# Altium integrated library TI_Logic_Little_Logic.IntLib: 1164 symbols (part 29 of 35)
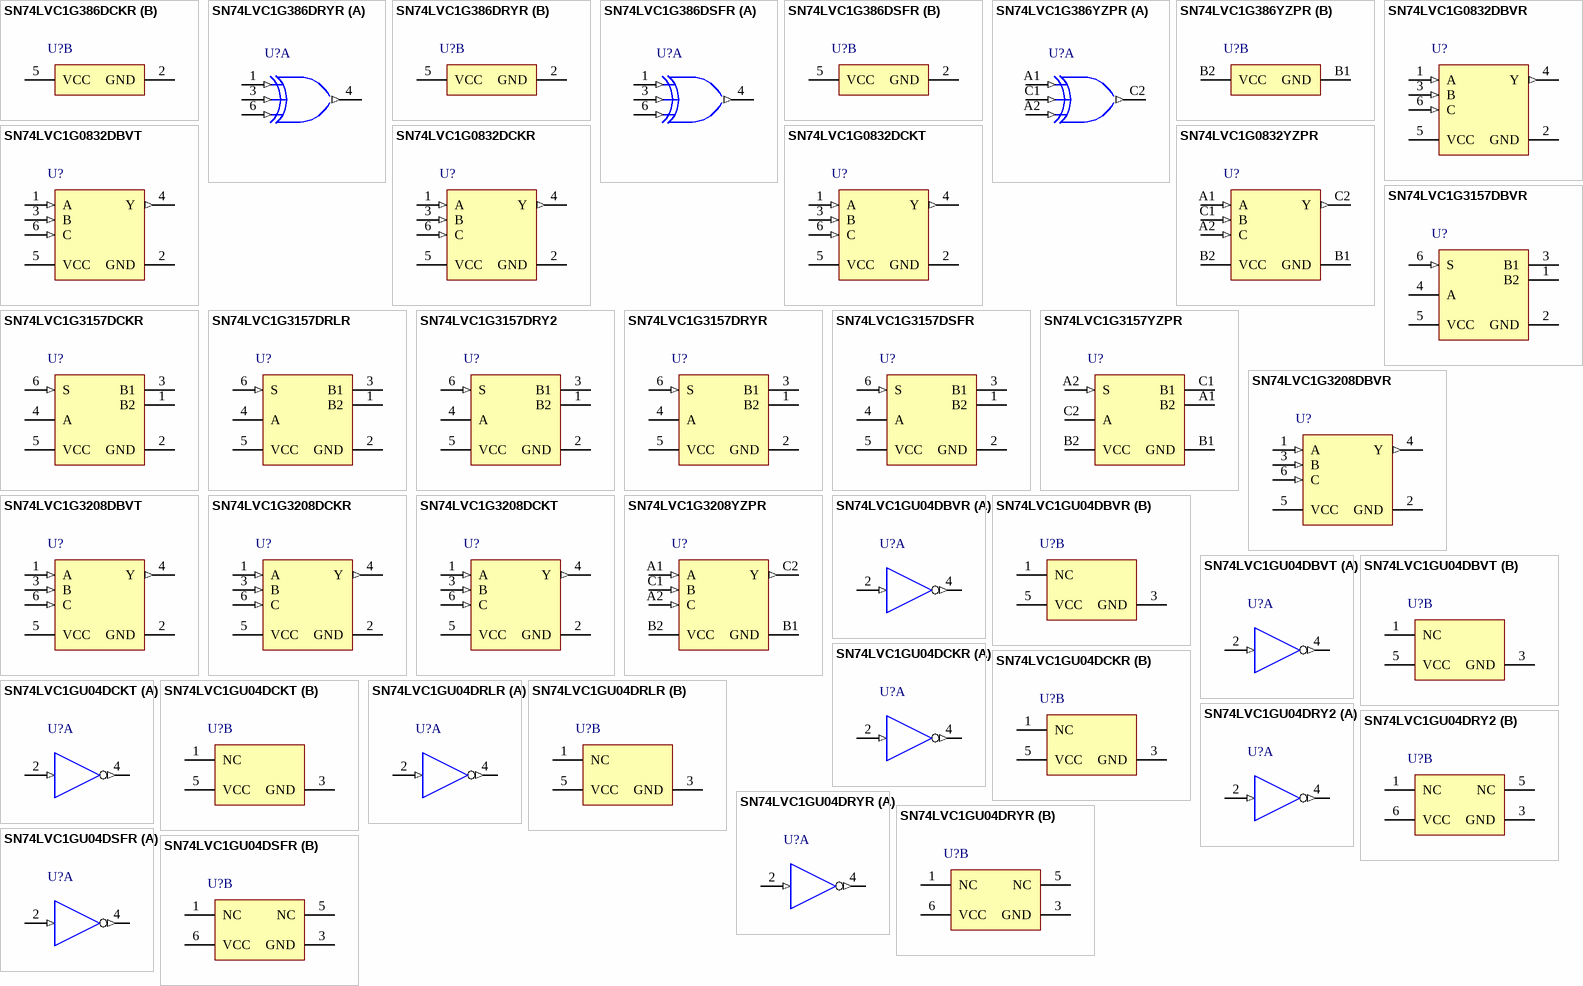
[diagram p88: symbols SN74LVC1G386DCKR to SN74LVC1GU04DSFR]

## SN74LVC1G386DSFR
designator U?
SINGLE 3-INPUT POSITIVE-XOR GATE, DSF0006A, LARGE T&R; Generic Part Number: SN74LVC1G386; Manufacturer: Texas Instruments; PartNumber: SN74LVC1G386DSFR; VCC(Min)(V): 1.65; VCC(Max)(V): 5.5; Output Type: CMOS; ICC @ Nom Voltage(Max)(mA): 0.01; Input Type: CMOS/TTL; Bits(#): 1; F @ Nom Voltage(Max)(Mhz): 150; Rating: Catalog; Technology Family: LVC; Voltage(Nom)(V): 1.8,2.5,3.3,5; Schmitt Trigger: No; Output Drive (IOL/IOH)(Max)(mA): 32/-32; tpd @ Nom Voltage(Max)(ns): 12,5.5,5,4; Logic: True; Gate Type: XOR; DatasheetVersion: SCES439E; PackageReference: DSF0006A; Supplier 1: Mouser; Supplier Part Number 1: 595-SN74LVC1G386DSFR; Supplier 2: Digi-Key; Supplier Part Number 2: 296-30127-2-ND; Supplier 3: Digi-Key; Supplier Part Number 3: 296-30127-1-ND; Supplier 4: Digi-Key; Supplier Part Number 4: 296-30127-6-ND; Operating Temperature Range(C): -40 to 125,-40 to 85; Sub-Family: XOR Gate; 3-State Output: No; ComponentLink1Description: Manufacturer URL; ComponentLink1URL: http://www.ti.com/; ComponentLink2Description: Datasheet; ComponentLink2URL: http://www.ti.com/lit/ds/symlink/sn74lvc1g386.pdf
footprint DSF0006A_V (SON, 6-Leads, Body 1x1mm, Pitch 0.35mm, TI Recommend)
part A pins: 1 A (in), 3 B (in), 4 Y (out), 6 C (in)
part B pins: 2 GND (power), 5 VCC (power)

## SN74LVC1G386YZPR
designator U?
SINGLE 3-INPUT POSITIVE-XOR GATE, YZP0006ADAD, LARGE T&R; Generic Part Number: SN74LVC1G386; Manufacturer: Texas Instruments; PartNumber: SN74LVC1G386YZPR; VCC(Min)(V): 1.65; VCC(Max)(V): 5.5; Output Type: CMOS; ICC @ Nom Voltage(Max)(mA): 0.01; Input Type: CMOS/TTL; Bits(#): 1; F @ Nom Voltage(Max)(Mhz): 150; Rating: Catalog; Technology Family: LVC; Voltage(Nom)(V): 1.8,2.5,3.3,5; Schmitt Trigger: No; Output Drive (IOL/IOH)(Max)(mA): 32/-32; tpd @ Nom Voltage(Max)(ns): 12,5.5,5,4; Logic: True; Gate Type: XOR; DatasheetVersion: SCES439E; PackageReference: YZP0006ADAD; Supplier 1: Mouser; Supplier Part Number 1: 595-SN74LVC1G386YZPR; Supplier 2: Digi-Key; Supplier Part Number 2: 296-18782-2-ND; Supplier 3: Digi-Key; Supplier Part Number 3: 296-18782-1-ND; Operating Temperature Range(C): -40 to 125,-40 to 85; Sub-Family: XOR Gate; 3-State Output: No; ComponentLink1Description: Manufacturer URL; ComponentLink1URL: http://www.ti.com/; ComponentLink2Description: Datasheet; ComponentLink2URL: http://www.ti.com/lit/ds/symlink/sn74lvc1g386.pdf
footprint YZP0006ADAD (BGA, 6-Balls, Body 1.39x0.89mm, Pitch 0.5mm)
part A pins: A1 A (in), A2 C (in), C1 B (in), C2 Y (out)
part B pins: B1 GND (power), B2 VCC (power)

## SN74LVC1G0832DBVR
designator U?
Single 3-Input Positive AND-OR Gate, DBV0006A, LARGE T&R; Generic Part Number: SN74LVC1G0832; Manufacturer: Texas Instruments; PartNumber: SN74LVC1G0832DBVR; VCC(Min)(V): 1.65; VCC(Max)(V): 5.5; Output Type: CMOS; ICC @ Nom Voltage(Max)(mA): 0.01; Input Type: CMOS/TTL; Bits(#): 1; F @ Nom Voltage(Max)(Mhz): 150; Rating: Catalog; Technology Family: LVC; Voltage(Nom)(V): 1.8,2.5,3.3,5; Schmitt Trigger: No; Output Drive (IOL/IOH)(Max)(mA): 32/-32; tpd @ Nom Voltage(Max)(ns): 17.5,7.6,5.9,4.5; Logic: True; Gate Type: Configurable; Sub-Family: Configurable Logic; DatasheetVersion: SCES606D; PackageReference: DBV0006A; Supplier 1: Mouser; Supplier Part Number 1: 595-SN74LC1G0832DBVR; Supplier 2: Digi-Key; Supplier Part Number 2: 296-18753-2-ND; Supplier 3: Digi-Key; Supplier Part Number 3: 296-18753-1-ND; Supplier 4: Digi-Key; Supplier Part Number 4: 296-18753-6-ND; Operating Temperature Range(C): -40 to 125,-40 to 85; 3-State Output: No; ComponentLink1Description: Manufacturer URL; ComponentLink1URL: http://www.ti.com/; ComponentLink2Description: Datasheet; ComponentLink2URL: http://www.ti.com/lit/ds/symlink/sn74lvc1g0832.pdf
footprint DBV0006A_N (SOT23, 6-Leads, Body 3.05x1.75mm, Pitch 0.95mm, IPC Medium Density)
footprint DBV0006A_M (SOT23, 6-Leads, Body 3.05x1.75mm, Pitch 0.95mm, IPC Low Density)
footprint DBV0006A_L (SOT23, 6-Leads, Body 3.05x1.75mm, Pitch 0.95mm, IPC High Density)
pins: 1 A (in), 2 GND (power), 3 B (in), 4 Y (out), 5 VCC (power), 6 C (in)

## SN74LVC1G0832DBVT
designator U?
Single 3-Input Positive AND-OR Gate, DBV0006A, SMALL T&R; Generic Part Number: SN74LVC1G0832; Manufacturer: Texas Instruments; PartNumber: SN74LVC1G0832DBVT; VCC(Min)(V): 1.65; VCC(Max)(V): 5.5; Output Type: CMOS; ICC @ Nom Voltage(Max)(mA): 0.01; Input Type: CMOS/TTL; Bits(#): 1; F @ Nom Voltage(Max)(Mhz): 150; Rating: Catalog; Technology Family: LVC; Voltage(Nom)(V): 1.8,2.5,3.3,5; Schmitt Trigger: No; Output Drive (IOL/IOH)(Max)(mA): 32/-32; tpd @ Nom Voltage(Max)(ns): 17.5,7.6,5.9,4.5; Logic: True; Gate Type: Configurable; Sub-Family: Configurable Logic; DatasheetVersion: SCES606D; PackageReference: DBV0006A; Supplier 1: Mouser; Supplier Part Number 1: 595-74LVC1G0832DBVT; Supplier 2: Digi-Key; Supplier Part Number 2: SN74LVC1G0832DBVT-ND; Operating Temperature Range(C): -40 to 125,-40 to 85; 3-State Output: No; ComponentLink1Description: Manufacturer URL; ComponentLink1URL: http://www.ti.com/; ComponentLink2Description: Datasheet; ComponentLink2URL: http://www.ti.com/lit/ds/symlink/sn74lvc1g0832.pdf
footprint DBV0006A_N (SOT23, 6-Leads, Body 3.05x1.75mm, Pitch 0.95mm, IPC Medium Density)
footprint DBV0006A_M (SOT23, 6-Leads, Body 3.05x1.75mm, Pitch 0.95mm, IPC Low Density)
footprint DBV0006A_L (SOT23, 6-Leads, Body 3.05x1.75mm, Pitch 0.95mm, IPC High Density)
pins: 1 A (in), 2 GND (power), 3 B (in), 4 Y (out), 5 VCC (power), 6 C (in)

## SN74LVC1G0832DCKR
designator U?
Single 3-Input Positive AND-OR Gate, DCK0006A, LARGE T&R; Generic Part Number: SN74LVC1G0832; Manufacturer: Texas Instruments; PartNumber: SN74LVC1G0832DCKR; VCC(Min)(V): 1.65; VCC(Max)(V): 5.5; Output Type: CMOS; ICC @ Nom Voltage(Max)(mA): 0.01; Input Type: CMOS/TTL; Bits(#): 1; F @ Nom Voltage(Max)(Mhz): 150; Rating: Catalog; Technology Family: LVC; Voltage(Nom)(V): 1.8,2.5,3.3,5; Schmitt Trigger: No; Output Drive (IOL/IOH)(Max)(mA): 32/-32; tpd @ Nom Voltage(Max)(ns): 17.5,7.6,5.9,4.5; Logic: True; Gate Type: Configurable; Sub-Family: Configurable Logic; DatasheetVersion: SCES606D; PackageReference: DCK0006A; Supplier 1: Mouser; Supplier Part Number 1: 595-SN74LVC1G832DCKR; Supplier 2: Digi-Key; Supplier Part Number 2: 296-18754-2-ND; Supplier 3: Digi-Key; Supplier Part Number 3: 296-18754-1-ND; Supplier 4: Digi-Key; Supplier Part Number 4: 296-18754-6-ND; Operating Temperature Range(C): -40 to 125,-40 to 85; 3-State Output: No; ComponentLink1Description: Manufacturer URL; ComponentLink1URL: http://www.ti.com/; ComponentLink2Description: Datasheet; ComponentLink2URL: http://www.ti.com/lit/ds/symlink/sn74lvc1g0832.pdf
footprint DCK0006A_N (SOT23, 6-Leads, Body 2.15x1.4mm, Pitch 0.65mm, IPC Medium Density)
footprint DCK0006A_M (SOT23, 6-Leads, Body 2.15x1.4mm, Pitch 0.65mm, IPC Low Density)
footprint DCK0006A_L (SOT23, 6-Leads, Body 2.15x1.4mm, Pitch 0.65mm, IPC High Density)
pins: 1 A (in), 2 GND (power), 3 B (in), 4 Y (out), 5 VCC (power), 6 C (in)

## SN74LVC1G0832DCKT
designator U?
Single 3-Input Positive AND-OR Gate, DCK0006A, SMALL T&R; Generic Part Number: SN74LVC1G0832; Manufacturer: Texas Instruments; PartNumber: SN74LVC1G0832DCKT; VCC(Min)(V): 1.65; VCC(Max)(V): 5.5; Output Type: CMOS; ICC @ Nom Voltage(Max)(mA): 0.01; Input Type: CMOS/TTL; Bits(#): 1; F @ Nom Voltage(Max)(Mhz): 150; Rating: Catalog; Technology Family: LVC; Voltage(Nom)(V): 1.8,2.5,3.3,5; Schmitt Trigger: No; Output Drive (IOL/IOH)(Max)(mA): 32/-32; tpd @ Nom Voltage(Max)(ns): 17.5,7.6,5.9,4.5; Logic: True; Gate Type: Configurable; Sub-Family: Configurable Logic; DatasheetVersion: SCES606D; PackageReference: DCK0006A; Supplier 1: Mouser; Supplier Part Number 1: 595-74LVC1G0832DCKT; Supplier 2: Digi-Key; Supplier Part Number 2: 296-32291-2-ND; Supplier 3: Digi-Key; Supplier Part Number 3: 296-32291-1-ND; Supplier 4: Digi-Key; Supplier Part Number 4: 296-32291-6-ND; Operating Temperature Range(C): -40 to 125,-40 to 85; 3-State Output: No; ComponentLink1Description: Manufacturer URL; ComponentLink1URL: http://www.ti.com/; ComponentLink2Description: Datasheet; ComponentLink2URL: http://www.ti.com/lit/ds/symlink/sn74lvc1g0832.pdf
footprint DCK0006A_N (SOT23, 6-Leads, Body 2.15x1.4mm, Pitch 0.65mm, IPC Medium Density)
footprint DCK0006A_M (SOT23, 6-Leads, Body 2.15x1.4mm, Pitch 0.65mm, IPC Low Density)
footprint DCK0006A_L (SOT23, 6-Leads, Body 2.15x1.4mm, Pitch 0.65mm, IPC High Density)
pins: 1 A (in), 2 GND (power), 3 B (in), 4 Y (out), 5 VCC (power), 6 C (in)

## SN74LVC1G0832YZPR
designator U?
Single 3-Input Positive AND-OR Gate, YZP0006ADAD, LARGE T&R; Generic Part Number: SN74LVC1G0832; Manufacturer: Texas Instruments; PartNumber: SN74LVC1G0832YZPR; VCC(Min)(V): 1.65; VCC(Max)(V): 5.5; Output Type: CMOS; ICC @ Nom Voltage(Max)(mA): 0.01; Input Type: CMOS/TTL; Bits(#): 1; F @ Nom Voltage(Max)(Mhz): 150; Rating: Catalog; Technology Family: LVC; Voltage(Nom)(V): 1.8,2.5,3.3,5; Schmitt Trigger: No; Output Drive (IOL/IOH)(Max)(mA): 32/-32; tpd @ Nom Voltage(Max)(ns): 17.5,7.6,5.9,4.5; Logic: True; Gate Type: Configurable; Sub-Family: Configurable Logic; DatasheetVersion: SCES606D; PackageReference: YZP0006ADAD; Supplier 1: Mouser; Supplier Part Number 1: 595-SN74LC1G0832YZPR; Supplier 2: Digi-Key; Supplier Part Number 2: 296-18199-2-ND; Supplier 3: Digi-Key; Supplier Part Number 3: 296-18199-1-ND; Operating Temperature Range(C): -40 to 125,-40 to 85; 3-State Output: No; ComponentLink1Description: Manufacturer URL; ComponentLink1URL: http://www.ti.com/; ComponentLink2Description: Datasheet; ComponentLink2URL: http://www.ti.com/lit/ds/symlink/sn74lvc1g0832.pdf
footprint YZP0006ADAD (BGA, 6-Balls, Body 1.39x0.89mm, Pitch 0.5mm)
pins: A1 A (in), A2 C (in), B1 GND (power), B2 VCC (power), C1 B (in), C2 Y (out)

## SN74LVC1G3157DBVR
designator U?
Single-Pole, Double-Throw Analog Switch, DBV0006A, LARGE T&R; Generic Part Number: SN74LVC1G3157; Manufacturer: Texas Instruments; PartNumber: SN74LVC1G3157DBVR; VCC(Min)(V): 1.65; VCC(Max)(V): 5.5; Output Type: CMOS; Logic: True; ICC @ Nom Voltage(Max)(mA): 0.01; Input Type: CMOS/TTL; Bits(#): 1; F @ Nom Voltage(Max)(Mhz): 150; Rating: Catalog; Technology Family: LVC; Voltage(Nom)(V): 1.8,2.5,3.3,5; Schmitt Trigger: No; Output Drive (IOL/IOH)(Max)(mA): 32/-32; Mux Configuration: 1：2; Switch Configuration: SPDT; tpd @ Nom Voltage(Max)(ns): 2,1.2,0.8,0.3; DatasheetVersion: SCES424H; PackageReference: DBV0006A; Supplier 1: Mouser; Supplier Part Number 1: 595-SN74LVC1G3157DBV; Supplier 2: Digi-Key; Supplier Part Number 2: 296-14908-2-ND; Supplier 3: Digi-Key; Supplier Part Number 3: 296-14908-1-ND; Supplier 4: Digi-Key; Supplier Part Number 4: 296-14908-6-ND; Operating Temperature Range(C): -40 to 85; Channels(#): 1; Sub-Family: Analog Switch; 3-State Output: No; ComponentLink1Description: Manufacturer URL; ComponentLink1URL: http://www.ti.com/; ComponentLink2Description: Datasheet; ComponentLink2URL: http://www.ti.com/lit/ds/symlink/sn74lvc1g3157.pdf
footprint DBV0006A_N (SOT23, 6-Leads, Body 3.05x1.75mm, Pitch 0.95mm, IPC Medium Density)
footprint DBV0006A_M (SOT23, 6-Leads, Body 3.05x1.75mm, Pitch 0.95mm, IPC Low Density)
footprint DBV0006A_L (SOT23, 6-Leads, Body 3.05x1.75mm, Pitch 0.95mm, IPC High Density)
pins: 1 B2, 2 GND (power), 3 B1, 4 A, 5 VCC (power), 6 S (in)

## SN74LVC1G3157DCKR
designator U?
Single-Pole, Double-Throw Analog Switch, DCK0006A, LARGE T&R; Generic Part Number: SN74LVC1G3157; Manufacturer: Texas Instruments; PartNumber: SN74LVC1G3157DCKR; VCC(Min)(V): 1.65; VCC(Max)(V): 5.5; Output Type: CMOS; Logic: True; ICC @ Nom Voltage(Max)(mA): 0.01; Input Type: CMOS/TTL; Bits(#): 1; F @ Nom Voltage(Max)(Mhz): 150; Rating: Catalog; Technology Family: LVC; Voltage(Nom)(V): 1.8,2.5,3.3,5; Schmitt Trigger: No; Output Drive (IOL/IOH)(Max)(mA): 32/-32; Mux Configuration: 1：2; Switch Configuration: SPDT; tpd @ Nom Voltage(Max)(ns): 2,1.2,0.8,0.3; DatasheetVersion: SCES424H; PackageReference: DCK0006A; Supplier 1: Mouser; Supplier Part Number 1: 595-SN74LVC1G3157DCK; Supplier 2: Digi-Key; Supplier Part Number 2: 296-14909-2-ND; Supplier 3: Digi-Key; Supplier Part Number 3: 296-14909-1-ND; Supplier 4: Digi-Key; Supplier Part Number 4: 296-14909-6-ND; Operating Temperature Range(C): -40 to 85; Channels(#): 1; Sub-Family: Analog Switch; 3-State Output: No; ComponentLink1Description: Manufacturer URL; ComponentLink1URL: http://www.ti.com/; ComponentLink2Description: Datasheet; ComponentLink2URL: http://www.ti.com/lit/ds/symlink/sn74lvc1g3157.pdf
footprint DCK0006A_N (SOT23, 6-Leads, Body 2.15x1.4mm, Pitch 0.65mm, IPC Medium Density)
footprint DCK0006A_M (SOT23, 6-Leads, Body 2.15x1.4mm, Pitch 0.65mm, IPC Low Density)
footprint DCK0006A_L (SOT23, 6-Leads, Body 2.15x1.4mm, Pitch 0.65mm, IPC High Density)
pins: 1 B2, 2 GND (power), 3 B1, 4 A, 5 VCC (power), 6 S (in)

## SN74LVC1G3157DRLR
designator U?
Single-Pole, Double-Throw Analog Switch, DRL0006A, LARGE T&R; Generic Part Number: SN74LVC1G3157; Manufacturer: Texas Instruments; PartNumber: SN74LVC1G3157DRLR; VCC(Min)(V): 1.65; VCC(Max)(V): 5.5; Output Type: CMOS; Logic: True; ICC @ Nom Voltage(Max)(mA): 0.01; Input Type: CMOS/TTL; Bits(#): 1; F @ Nom Voltage(Max)(Mhz): 150; Rating: Catalog; Technology Family: LVC; Voltage(Nom)(V): 1.8,2.5,3.3,5; Schmitt Trigger: No; Output Drive (IOL/IOH)(Max)(mA): 32/-32; Mux Configuration: 1：2; Switch Configuration: SPDT; tpd @ Nom Voltage(Max)(ns): 2,1.2,0.8,0.3; DatasheetVersion: SCES424H; PackageReference: DRL0006A; Supplier 1: Mouser; Supplier Part Number 1: 595-SN74LVC1G3157DRL; Supplier 2: Digi-Key; Supplier Part Number 2: 296-18015-2-ND; Supplier 3: Digi-Key; Supplier Part Number 3: 296-18015-1-ND; Supplier 4: Digi-Key; Supplier Part Number 4: 296-18015-6-ND; Operating Temperature Range(C): -40 to 85; Channels(#): 1; Sub-Family: Analog Switch; 3-State Output: No; ComponentLink1Description: Manufacturer URL; ComponentLink1URL: http://www.ti.com/; ComponentLink2Description: Datasheet; ComponentLink2URL: http://www.ti.com/lit/ds/symlink/sn74lvc1g3157.pdf
footprint DRL0006A_N (SOT23, 6-Leads, Body 1.7x1.3mm, Pitch 0.5mm, IPC Medium Density)
footprint DRL0006A_M (SOT23, 6-Leads, Body 1.7x1.3mm, Pitch 0.5mm, IPC Low Density)
footprint DRL0006A_L (SOT23, 6-Leads, Body 1.7x1.3mm, Pitch 0.5mm, IPC High Density)
pins: 1 B2, 2 GND (power), 3 B1, 4 A, 5 VCC (power), 6 S (in)

## SN74LVC1G3157DRY2
designator U?
Single-Pole, Double-Throw Analog Switch, DRY0006A, LARGE T&R; Generic Part Number: SN74LVC1G3157; Manufacturer: Texas Instruments; PartNumber: SN74LVC1G3157DRY2; VCC(Min)(V): 1.65; VCC(Max)(V): 5.5; Output Type: CMOS; Logic: True; ICC @ Nom Voltage(Max)(mA): 0.01; Input Type: CMOS/TTL; Bits(#): 1; F @ Nom Voltage(Max)(Mhz): 150; Rating: Catalog; Technology Family: LVC; Voltage(Nom)(V): 1.8,2.5,3.3,5; Schmitt Trigger: No; Output Drive (IOL/IOH)(Max)(mA): 32/-32; Mux Configuration: 1：2; Switch Configuration: SPDT; tpd @ Nom Voltage(Max)(ns): 2,1.2,0.8,0.3; DatasheetVersion: SCES424H; PackageReference: DRY0006A; Supplier 1: Mouser; Supplier Part Number 1: 595-N74LVC1G3157DRY2; Supplier 2: Digi-Key; Supplier Part Number 2: 296-40551-2-ND; Supplier 3: Digi-Key; Supplier Part Number 3: 296-40551-1-ND; Supplier 4: Digi-Key; Supplier Part Number 4: 296-40551-6-ND; Operating Temperature Range(C): -40 to 85; Channels(#): 1; Sub-Family: Analog Switch; 3-State Output: No; ComponentLink1Description: Manufacturer URL; ComponentLink1URL: http://www.ti.com/; ComponentLink2Description: Datasheet; ComponentLink2URL: http://www.ti.com/lit/ds/symlink/sn74lvc1g3157.pdf
footprint DRY0006A_V (SON, 6-Leads, Body 1.45x1mm, Pitch 0.5mm)
pins: 1 B2, 2 GND (power), 3 B1, 4 A, 5 VCC (power), 6 S (in)

## SN74LVC1G3157DRYR
designator U?
Single-Pole, Double-Throw Analog Switch, DRY0006A, LARGE T&R; Generic Part Number: SN74LVC1G3157; Manufacturer: Texas Instruments; PartNumber: SN74LVC1G3157DRYR; VCC(Min)(V): 1.65; VCC(Max)(V): 5.5; Output Type: CMOS; Logic: True; ICC @ Nom Voltage(Max)(mA): 0.01; Input Type: CMOS/TTL; Bits(#): 1; F @ Nom Voltage(Max)(Mhz): 150; Rating: Catalog; Technology Family: LVC; Voltage(Nom)(V): 1.8,2.5,3.3,5; Schmitt Trigger: No; Output Drive (IOL/IOH)(Max)(mA): 32/-32; Mux Configuration: 1：2; Switch Configuration: SPDT; tpd @ Nom Voltage(Max)(ns): 2,1.2,0.8,0.3; DatasheetVersion: SCES424H; PackageReference: DRY0006A; Supplier 1: Mouser; Supplier Part Number 1: 595-74LVC1G3157DRYR; Supplier 2: Digi-Key; Supplier Part Number 2: 296-21548-2-ND; Supplier 3: Digi-Key; Supplier Part Number 3: 296-21548-1-ND; Supplier 4: Digi-Key; Supplier Part Number 4: 296-21548-6-ND; Operating Temperature Range(C): -40 to 85; Channels(#): 1; Sub-Family: Analog Switch; 3-State Output: No; ComponentLink1Description: Manufacturer URL; ComponentLink1URL: http://www.ti.com/; ComponentLink2Description: Datasheet; ComponentLink2URL: http://www.ti.com/lit/ds/symlink/sn74lvc1g3157.pdf
footprint DRY0006A_V (SON, 6-Leads, Body 1.45x1mm, Pitch 0.5mm)
pins: 1 B2, 2 GND (power), 3 B1, 4 A, 5 VCC (power), 6 S (in)

## SN74LVC1G3157DSFR
designator U?
Single-Pole, Double-Throw Analog Switch, DSF0006A, LARGE T&R; Generic Part Number: SN74LVC1G3157; Manufacturer: Texas Instruments; PartNumber: SN74LVC1G3157DSFR; VCC(Min)(V): 1.65; VCC(Max)(V): 5.5; Output Type: CMOS; Logic: True; ICC @ Nom Voltage(Max)(mA): 0.01; Input Type: CMOS/TTL; Bits(#): 1; F @ Nom Voltage(Max)(Mhz): 150; Rating: Catalog; Technology Family: LVC; Voltage(Nom)(V): 1.8,2.5,3.3,5; Schmitt Trigger: No; Output Drive (IOL/IOH)(Max)(mA): 32/-32; Mux Configuration: 1：2; Switch Configuration: SPDT; tpd @ Nom Voltage(Max)(ns): 2,1.2,0.8,0.3; DatasheetVersion: SCES424H; PackageReference: DSF0006A; Supplier 1: Mouser; Supplier Part Number 1: 595-N74LVC1G3157DSFR; Supplier 2: Digi-Key; Supplier Part Number 2: 296-29652-2-ND; Supplier 3: Digi-Key; Supplier Part Number 3: 296-29652-1-ND; Supplier 4: Digi-Key; Supplier Part Number 4: 296-29652-6-ND; Operating Temperature Range(C): -40 to 85; Channels(#): 1; Sub-Family: Analog Switch; 3-State Output: No; ComponentLink1Description: Manufacturer URL; ComponentLink1URL: http://www.ti.com/; ComponentLink2Description: Datasheet; ComponentLink2URL: http://www.ti.com/lit/ds/symlink/sn74lvc1g3157.pdf
footprint DSF0006A_V (SON, 6-Leads, Body 1x1mm, Pitch 0.35mm, TI Recommend)
pins: 1 B2, 2 GND (power), 3 B1, 4 A, 5 VCC (power), 6 S (in)

## SN74LVC1G3157YZPR
designator U?
Single-Pole, Double-Throw Analog Switch, YZP0006ADAD, LARGE T&R; Generic Part Number: SN74LVC1G3157; Manufacturer: Texas Instruments; PartNumber: SN74LVC1G3157YZPR; VCC(Min)(V): 1.65; VCC(Max)(V): 5.5; Output Type: CMOS; Logic: True; ICC @ Nom Voltage(Max)(mA): 0.01; Input Type: CMOS/TTL; Bits(#): 1; F @ Nom Voltage(Max)(Mhz): 150; Rating: Catalog; Technology Family: LVC; Voltage(Nom)(V): 1.8,2.5,3.3,5; Schmitt Trigger: No; Output Drive (IOL/IOH)(Max)(mA): 32/-32; Mux Configuration: 1：2; Switch Configuration: SPDT; tpd @ Nom Voltage(Max)(ns): 2,1.2,0.8,0.3; DatasheetVersion: SCES424H; PackageReference: YZP0006ADAD; Supplier 1: Mouser; Supplier Part Number 1: 595-SN74LVC1G3157YZP; Supplier 2: Digi-Key; Supplier Part Number 2: 296-18770-2-ND; Supplier 3: Digi-Key; Supplier Part Number 3: 296-18770-1-ND; Supplier 4: Digi-Key; Supplier Part Number 4: 296-18770-6-ND; Operating Temperature Range(C): -40 to 85; Channels(#): 1; Sub-Family: Analog Switch; 3-State Output: No; ComponentLink1Description: Manufacturer URL; ComponentLink1URL: http://www.ti.com/; ComponentLink2Description: Datasheet; ComponentLink2URL: http://www.ti.com/lit/ds/symlink/sn74lvc1g3157.pdf
footprint YZP0006ADAD (BGA, 6-Balls, Body 1.39x0.89mm, Pitch 0.5mm)
pins: A1 B2, A2 S (in), B1 GND (power), B2 VCC (power), C1 B1, C2 A

## SN74LVC1G3208DBVR
designator U?
Single 3-Input Positive OR-AND Gate, DBV0006A, LARGE T&R; Generic Part Number: SN74LVC1G3208; Manufacturer: Texas Instruments; PartNumber: SN74LVC1G3208DBVR; VCC(Min)(V): 1.65; VCC(Max)(V): 5.5; Output Type: CMOS; ICC @ Nom Voltage(Max)(mA): 0.01; Input Type: CMOS/TTL; Bits(#): 1; F @ Nom Voltage(Max)(Mhz): 150; Rating: Catalog; Technology Family: LVC; Voltage(Nom)(V): 1.8,2.5,3.3,5; Schmitt Trigger: No; Output Drive (IOL/IOH)(Max)(mA): 32/-32; tpd @ Nom Voltage(Max)(ns): 17.5,7.5,5.9,4.5; Logic: True; Gate Type: Configurable; Sub-Family: Configurable Logic; DatasheetVersion: SCES605B; PackageReference: DBV0006A; Supplier 1: Mouser; Supplier Part Number 1: 595-SN74LC1G3208DBVR; Supplier 2: Digi-Key; Supplier Part Number 2: 296-18771-2-ND; Supplier 3: Digi-Key; Supplier Part Number 3: 296-18771-1-ND; Supplier 4: Digi-Key; Supplier Part Number 4: 296-18771-6-ND; Operating Temperature Range(C): -40 to 125,-40 to 85; 3-State Output: No; ComponentLink1Description: Manufacturer URL; ComponentLink1URL: http://www.ti.com/; ComponentLink2Description: Datasheet; ComponentLink2URL: http://www.ti.com/lit/ds/symlink/sn74lvc1g3208.pdf
footprint DBV0006A_N (SOT23, 6-Leads, Body 3.05x1.75mm, Pitch 0.95mm, IPC Medium Density)
footprint DBV0006A_M (SOT23, 6-Leads, Body 3.05x1.75mm, Pitch 0.95mm, IPC Low Density)
footprint DBV0006A_L (SOT23, 6-Leads, Body 3.05x1.75mm, Pitch 0.95mm, IPC High Density)
pins: 1 A (in), 2 GND (power), 3 B (in), 4 Y (out), 5 VCC (power), 6 C (in)

## SN74LVC1G3208DBVT
designator U?
Single 3-Input Positive OR-AND Gate, DBV0006A, SMALL T&R; Generic Part Number: SN74LVC1G3208; Manufacturer: Texas Instruments; PartNumber: SN74LVC1G3208DBVT; VCC(Min)(V): 1.65; VCC(Max)(V): 5.5; Output Type: CMOS; ICC @ Nom Voltage(Max)(mA): 0.01; Input Type: CMOS/TTL; Bits(#): 1; F @ Nom Voltage(Max)(Mhz): 150; Rating: Catalog; Technology Family: LVC; Voltage(Nom)(V): 1.8,2.5,3.3,5; Schmitt Trigger: No; Output Drive (IOL/IOH)(Max)(mA): 32/-32; tpd @ Nom Voltage(Max)(ns): 17.5,7.5,5.9,4.5; Logic: True; Gate Type: Configurable; Sub-Family: Configurable Logic; DatasheetVersion: SCES605B; PackageReference: DBV0006A; Supplier 1: Mouser; Supplier Part Number 1: 595-74LVC1G3208DBVT; Supplier 2: Digi-Key; Supplier Part Number 2: SN74LVC1G3208DBVT-ND; Operating Temperature Range(C): -40 to 125,-40 to 85; 3-State Output: No; ComponentLink1Description: Manufacturer URL; ComponentLink1URL: http://www.ti.com/; ComponentLink2Description: Datasheet; ComponentLink2URL: http://www.ti.com/lit/ds/symlink/sn74lvc1g3208.pdf
footprint DBV0006A_N (SOT23, 6-Leads, Body 3.05x1.75mm, Pitch 0.95mm, IPC Medium Density)
footprint DBV0006A_M (SOT23, 6-Leads, Body 3.05x1.75mm, Pitch 0.95mm, IPC Low Density)
footprint DBV0006A_L (SOT23, 6-Leads, Body 3.05x1.75mm, Pitch 0.95mm, IPC High Density)
pins: 1 A (in), 2 GND (power), 3 B (in), 4 Y (out), 5 VCC (power), 6 C (in)

## SN74LVC1G3208DCKR
designator U?
Single 3-Input Positive OR-AND Gate, DCK0006A, LARGE T&R; Generic Part Number: SN74LVC1G3208; Manufacturer: Texas Instruments; PartNumber: SN74LVC1G3208DCKR; VCC(Min)(V): 1.65; VCC(Max)(V): 5.5; Output Type: CMOS; ICC @ Nom Voltage(Max)(mA): 0.01; Input Type: CMOS/TTL; Bits(#): 1; F @ Nom Voltage(Max)(Mhz): 150; Rating: Catalog; Technology Family: LVC; Voltage(Nom)(V): 1.8,2.5,3.3,5; Schmitt Trigger: No; Output Drive (IOL/IOH)(Max)(mA): 32/-32; tpd @ Nom Voltage(Max)(ns): 17.5,7.5,5.9,4.5; Logic: True; Gate Type: Configurable; Sub-Family: Configurable Logic; DatasheetVersion: SCES605B; PackageReference: DCK0006A; Supplier 1: Mouser; Supplier Part Number 1: 595-SN74LVC1G3208DCK; Supplier 2: Digi-Key; Supplier Part Number 2: 296-17845-2-ND; Supplier 3: Digi-Key; Supplier Part Number 3: 296-17845-1-ND; Supplier 4: Digi-Key; Supplier Part Number 4: 296-17845-6-ND; Operating Temperature Range(C): -40 to 125,-40 to 85; 3-State Output: No; ComponentLink1Description: Manufacturer URL; ComponentLink1URL: http://www.ti.com/; ComponentLink2Description: Datasheet; ComponentLink2URL: http://www.ti.com/lit/ds/symlink/sn74lvc1g3208.pdf
footprint DCK0006A_N (SOT23, 6-Leads, Body 2.15x1.4mm, Pitch 0.65mm, IPC Medium Density)
footprint DCK0006A_M (SOT23, 6-Leads, Body 2.15x1.4mm, Pitch 0.65mm, IPC Low Density)
footprint DCK0006A_L (SOT23, 6-Leads, Body 2.15x1.4mm, Pitch 0.65mm, IPC High Density)
pins: 1 A (in), 2 GND (power), 3 B (in), 4 Y (out), 5 VCC (power), 6 C (in)

## SN74LVC1G3208DCKT
designator U?
Single 3-Input Positive OR-AND Gate, DCK0006A, SMALL T&R; Generic Part Number: SN74LVC1G3208; Manufacturer: Texas Instruments; PartNumber: SN74LVC1G3208DCKT; VCC(Min)(V): 1.65; VCC(Max)(V): 5.5; Output Type: CMOS; ICC @ Nom Voltage(Max)(mA): 0.01; Input Type: CMOS/TTL; Bits(#): 1; F @ Nom Voltage(Max)(Mhz): 150; Rating: Catalog; Technology Family: LVC; Voltage(Nom)(V): 1.8,2.5,3.3,5; Schmitt Trigger: No; Output Drive (IOL/IOH)(Max)(mA): 32/-32; tpd @ Nom Voltage(Max)(ns): 17.5,7.5,5.9,4.5; Logic: True; Gate Type: Configurable; Sub-Family: Configurable Logic; DatasheetVersion: SCES605B; PackageReference: DCK0006A; Supplier 1: Mouser; Supplier Part Number 1: 595-74LVC1G3208DCKT; Supplier 2: Digi-Key; Supplier Part Number 2: 296-41823-2-ND; Supplier 3: Digi-Key; Supplier Part Number 3: 296-41823-1-ND; Supplier 4: Digi-Key; Supplier Part Number 4: 296-41823-6-ND; Operating Temperature Range(C): -40 to 125,-40 to 85; 3-State Output: No; ComponentLink1Description: Manufacturer URL; ComponentLink1URL: http://www.ti.com/; ComponentLink2Description: Datasheet; ComponentLink2URL: http://www.ti.com/lit/ds/symlink/sn74lvc1g3208.pdf
footprint DCK0006A_N (SOT23, 6-Leads, Body 2.15x1.4mm, Pitch 0.65mm, IPC Medium Density)
footprint DCK0006A_M (SOT23, 6-Leads, Body 2.15x1.4mm, Pitch 0.65mm, IPC Low Density)
footprint DCK0006A_L (SOT23, 6-Leads, Body 2.15x1.4mm, Pitch 0.65mm, IPC High Density)
pins: 1 A (in), 2 GND (power), 3 B (in), 4 Y (out), 5 VCC (power), 6 C (in)

## SN74LVC1G3208YZPR
designator U?
Single 3-Input Positive OR-AND Gate, YZP0006ADAD, LARGE T&R; Generic Part Number: SN74LVC1G3208; Manufacturer: Texas Instruments; PartNumber: SN74LVC1G3208YZPR; VCC(Min)(V): 1.65; VCC(Max)(V): 5.5; Output Type: CMOS; ICC @ Nom Voltage(Max)(mA): 0.01; Input Type: CMOS/TTL; Bits(#): 1; F @ Nom Voltage(Max)(Mhz): 150; Rating: Catalog; Technology Family: LVC; Voltage(Nom)(V): 1.8,2.5,3.3,5; Schmitt Trigger: No; Output Drive (IOL/IOH)(Max)(mA): 32/-32; tpd @ Nom Voltage(Max)(ns): 17.5,7.5,5.9,4.5; Logic: True; Gate Type: Configurable; Sub-Family: Configurable Logic; DatasheetVersion: SCES605B; PackageReference: YZP0006ADAD; Supplier 1: Mouser; Supplier Part Number 1: 595-SN74LC1G3208YZPR; Supplier 2: Digi-Key; Supplier Part Number 2: 296-21061-2-ND; Supplier 3: Digi-Key; Supplier Part Number 3: 296-21061-1-ND; Supplier 4: Digi-Key; Supplier Part Number 4: 296-21061-6-ND; Operating Temperature Range(C): -40 to 125,-40 to 85; 3-State Output: No; ComponentLink1Description: Manufacturer URL; ComponentLink1URL: http://www.ti.com/; ComponentLink2Description: Datasheet; ComponentLink2URL: http://www.ti.com/lit/ds/symlink/sn74lvc1g3208.pdf
footprint YZP0006ADAD (BGA, 6-Balls, Body 1.39x0.89mm, Pitch 0.5mm)
pins: A1 A (in), A2 C (in), B1 GND (power), B2 VCC (power), C1 B (in), C2 Y (out)

## SN74LVC1GU04DBVR
designator U?
Single Inverter Gate, DBV0005A, LARGE T&R; Generic Part Number: SN74LVC1GU04; Manufacturer: Texas Instruments; PartNumber: SN74LVC1GU04DBVR; VCC(Min)(V): 1.65; VCC(Max)(V): 5.5; Output Type: CMOS; ICC @ Nom Voltage(Max)(mA): 0.01; Input Type: CMOS/TTL; Bits(#): 1; F @ Nom Voltage(Max)(Mhz): 150; Rating: Catalog; Technology Family: LVC; Voltage(Nom)(V): 1.8,2.5,3.3,5; Schmitt Trigger: No; Output Drive (IOL/IOH)(Max)(mA): 32/-32; tpd @ Nom Voltage(Max)(ns): 5.5,4.5,4.2,3.5; Logic: Inverting; Sub-Family: Inverting Buffer/Driver; DatasheetVersion: SCES215V; PackageReference: DBV0005A; Supplier 1: Mouser; Supplier Part Number 1: 595-SN74LVC1GU04DBVR; Supplier 2: Digi-Key; Supplier Part Number 2: 296-8487-2-ND; Supplier 3: Digi-Key; Supplier Part Number 3: 296-8487-1-ND; Supplier 4: Digi-Key; Supplier Part Number 4: 296-8487-6-ND; Operating Temperature Range(C): -40 to 125,-40 to 85; 3-State Output: No; ComponentLink1Description: Manufacturer URL; ComponentLink1URL: http://www.ti.com/; ComponentLink2Description: Datasheet; ComponentLink2URL: http://www.ti.com/lit/ds/symlink/sn74lvc1gu04.pdf
footprint DBV0005A_N (SOT23, 5-Leads, Body 3.05x1.75mm, Pitch 0.95mm, IPC Medium Density)
footprint DBV0005A_M (SOT23, 5-Leads, Body 3.05x1.75mm, Pitch 0.95mm, IPC Low Density)
footprint DBV0005A_L (SOT23, 5-Leads, Body 3.05x1.75mm, Pitch 0.95mm, IPC High Density)
part A pins: 2 A (in) "Input A", 4 Y (out) "Output Y"
part B pins: 1 NC "Ground", 3 GND (power) "Ground Pin", 5 VCC (power) "Power Pin"

## SN74LVC1GU04DBVT
designator U?
Single Inverter Gate, DBV0005A, SMALL T&R; Generic Part Number: SN74LVC1GU04; Manufacturer: Texas Instruments; PartNumber: SN74LVC1GU04DBVT; VCC(Min)(V): 1.65; VCC(Max)(V): 5.5; Output Type: CMOS; ICC @ Nom Voltage(Max)(mA): 0.01; Input Type: CMOS/TTL; Bits(#): 1; F @ Nom Voltage(Max)(Mhz): 150; Rating: Catalog; Technology Family: LVC; Voltage(Nom)(V): 1.8,2.5,3.3,5; Schmitt Trigger: No; Output Drive (IOL/IOH)(Max)(mA): 32/-32; tpd @ Nom Voltage(Max)(ns): 5.5,4.5,4.2,3.5; Logic: Inverting; Sub-Family: Inverting Buffer/Driver; DatasheetVersion: SCES215V; PackageReference: DBV0005A; Supplier 1: Mouser; Supplier Part Number 1: 595-SN74LVC1GU04DBVT; Supplier 2: Digi-Key; Supplier Part Number 2: 296-32313-2-ND; Supplier 3: Digi-Key; Supplier Part Number 3: 296-32313-1-ND; Supplier 4: Digi-Key; Supplier Part Number 4: 296-32313-6-ND; Operating Temperature Range(C): -40 to 125,-40 to 85; 3-State Output: No; ComponentLink1Description: Manufacturer URL; ComponentLink1URL: http://www.ti.com/; ComponentLink2Description: Datasheet; ComponentLink2URL: http://www.ti.com/lit/ds/symlink/sn74lvc1gu04.pdf
footprint DBV0005A_N (SOT23, 5-Leads, Body 3.05x1.75mm, Pitch 0.95mm, IPC Medium Density)
footprint DBV0005A_M (SOT23, 5-Leads, Body 3.05x1.75mm, Pitch 0.95mm, IPC Low Density)
footprint DBV0005A_L (SOT23, 5-Leads, Body 3.05x1.75mm, Pitch 0.95mm, IPC High Density)
part A pins: 2 A (in) "Input A", 4 Y (out) "Output Y"
part B pins: 1 NC "Ground", 3 GND (power) "Ground Pin", 5 VCC (power) "Power Pin"

## SN74LVC1GU04DCKR
designator U?
Single Inverter Gate, DCK0005A, LARGE T&R; Generic Part Number: SN74LVC1GU04; Manufacturer: Texas Instruments; PartNumber: SN74LVC1GU04DCKR; VCC(Min)(V): 1.65; VCC(Max)(V): 5.5; Output Type: CMOS; ICC @ Nom Voltage(Max)(mA): 0.01; Input Type: CMOS/TTL; Bits(#): 1; F @ Nom Voltage(Max)(Mhz): 150; Rating: Catalog; Technology Family: LVC; Voltage(Nom)(V): 1.8,2.5,3.3,5; Schmitt Trigger: No; Output Drive (IOL/IOH)(Max)(mA): 32/-32; tpd @ Nom Voltage(Max)(ns): 5.5,4.5,4.2,3.5; Logic: Inverting; Sub-Family: Inverting Buffer/Driver; DatasheetVersion: SCES215V; PackageReference: DCK0005A; Supplier 1: Mouser; Supplier Part Number 1: 595-SN74LVC1GU04DCKR; Supplier 2: Digi-Key; Supplier Part Number 2: 296-8488-2-ND; Supplier 3: Digi-Key; Supplier Part Number 3: 296-8488-1-ND; Supplier 4: Digi-Key; Supplier Part Number 4: 296-8488-6-ND; Operating Temperature Range(C): -40 to 125,-40 to 85; 3-State Output: No; ComponentLink1Description: Manufacturer URL; ComponentLink1URL: http://www.ti.com/; ComponentLink2Description: Datasheet; ComponentLink2URL: http://www.ti.com/lit/ds/symlink/sn74lvc1gu04.pdf
footprint DCK0005A_N (SOT23, 5-Leads, Body 2.15x1.4mm, Pitch 0.65mm, IPC Medium Density)
footprint DCK0005A_M (SOT23, 5-Leads, Body 2.15x1.4mm, Pitch 0.65mm, IPC Low Density)
footprint DCK0005A_L (SOT23, 5-Leads, Body 2.15x1.4mm, Pitch 0.65mm, IPC High Density)
part A pins: 2 A (in) "Input A", 4 Y (out) "Output Y"
part B pins: 1 NC "Ground", 3 GND (power) "Ground Pin", 5 VCC (power) "Power Pin"

## SN74LVC1GU04DCKT
designator U?
Single Inverter Gate, DCK0005A, SMALL T&R; Generic Part Number: SN74LVC1GU04; Manufacturer: Texas Instruments; PartNumber: SN74LVC1GU04DCKT; VCC(Min)(V): 1.65; VCC(Max)(V): 5.5; Output Type: CMOS; ICC @ Nom Voltage(Max)(mA): 0.01; Input Type: CMOS/TTL; Bits(#): 1; F @ Nom Voltage(Max)(Mhz): 150; Rating: Catalog; Technology Family: LVC; Voltage(Nom)(V): 1.8,2.5,3.3,5; Schmitt Trigger: No; Output Drive (IOL/IOH)(Max)(mA): 32/-32; tpd @ Nom Voltage(Max)(ns): 5.5,4.5,4.2,3.5; Logic: Inverting; Sub-Family: Inverting Buffer/Driver; DatasheetVersion: SCES215V; PackageReference: DCK0005A; Supplier 1: Mouser; Supplier Part Number 1: 595-SN74LVC1GU04DCKT; Supplier 2: Digi-Key; Supplier Part Number 2: 296-32314-2-ND; Supplier 3: Digi-Key; Supplier Part Number 3: 296-32314-1-ND; Supplier 4: Digi-Key; Supplier Part Number 4: 296-32314-6-ND; Operating Temperature Range(C): -40 to 125,-40 to 85; 3-State Output: No; ComponentLink1Description: Manufacturer URL; ComponentLink1URL: http://www.ti.com/; ComponentLink2Description: Datasheet; ComponentLink2URL: http://www.ti.com/lit/ds/symlink/sn74lvc1gu04.pdf
footprint DCK0005A_N (SOT23, 5-Leads, Body 2.15x1.4mm, Pitch 0.65mm, IPC Medium Density)
footprint DCK0005A_M (SOT23, 5-Leads, Body 2.15x1.4mm, Pitch 0.65mm, IPC Low Density)
footprint DCK0005A_L (SOT23, 5-Leads, Body 2.15x1.4mm, Pitch 0.65mm, IPC High Density)
part A pins: 2 A (in) "Input A", 4 Y (out) "Output Y"
part B pins: 1 NC "Ground", 3 GND (power) "Ground Pin", 5 VCC (power) "Power Pin"

## SN74LVC1GU04DRLR
designator U?
Single Inverter Gate, DRL0005A, LARGE T&R; Generic Part Number: SN74LVC1GU04; Manufacturer: Texas Instruments; PartNumber: SN74LVC1GU04DRLR; VCC(Min)(V): 1.65; VCC(Max)(V): 5.5; Output Type: CMOS; ICC @ Nom Voltage(Max)(mA): 0.01; Input Type: CMOS/TTL; Bits(#): 1; F @ Nom Voltage(Max)(Mhz): 150; Rating: Catalog; Technology Family: LVC; Voltage(Nom)(V): 1.8,2.5,3.3,5; Schmitt Trigger: No; Output Drive (IOL/IOH)(Max)(mA): 32/-32; tpd @ Nom Voltage(Max)(ns): 5.5,4.5,4.2,3.5; Logic: Inverting; Sub-Family: Inverting Buffer/Driver; DatasheetVersion: SCES215V; PackageReference: DRL0005A; Supplier 1: Mouser; Supplier Part Number 1: 595-SN74LVC1GU04DRLR; Supplier 2: Digi-Key; Supplier Part Number 2: 296-18657-2-ND; Supplier 3: Digi-Key; Supplier Part Number 3: 296-18657-1-ND; Supplier 4: Digi-Key; Supplier Part Number 4: 296-18657-6-ND; Operating Temperature Range(C): -40 to 125,-40 to 85; 3-State Output: No; ComponentLink1Description: Manufacturer URL; ComponentLink1URL: http://www.ti.com/; ComponentLink2Description: Datasheet; ComponentLink2URL: http://www.ti.com/lit/ds/symlink/sn74lvc1gu04.pdf
footprint DRL0005A_N (SOT23, 5-Leads, Body 1.7x1.3mm, Pitch 0.5mm, IPC Medium Density)
footprint DRL0005A_M (SOT23, 5-Leads, Body 1.7x1.3mm, Pitch 0.5mm, IPC Low Density)
footprint DRL0005A_L (SOT23, 5-Leads, Body 1.7x1.3mm, Pitch 0.5mm, IPC High Density)
part A pins: 2 A (in) "Input A", 4 Y (out) "Output Y"
part B pins: 1 NC "Ground", 3 GND (power) "Ground Pin", 5 VCC (power) "Power Pin"

## SN74LVC1GU04DRY2
designator U?
Single Inverter Gate, DRY0006A, LARGE T&R; Generic Part Number: SN74LVC1GU04; Manufacturer: Texas Instruments; PartNumber: SN74LVC1GU04DRY2; VCC(Min)(V): 1.65; VCC(Max)(V): 5.5; Output Type: CMOS; ICC @ Nom Voltage(Max)(mA): 0.01; Input Type: CMOS/TTL; Bits(#): 1; F @ Nom Voltage(Max)(Mhz): 150; Rating: Catalog; Technology Family: LVC; Voltage(Nom)(V): 1.8,2.5,3.3,5; Schmitt Trigger: No; Output Drive (IOL/IOH)(Max)(mA): 32/-32; tpd @ Nom Voltage(Max)(ns): 5.5,4.5,4.2,3.5; Logic: Inverting; Sub-Family: Inverting Buffer/Driver; DatasheetVersion: SCES215V; PackageReference: DRY0006A; Supplier 1: Mouser; Supplier Part Number 1: 595-SN74LVC1GU04DRY2; Supplier 2: Digi-Key; Supplier Part Number 2: SN74LVC1GU04DRY2-ND; Operating Temperature Range(C): -40 to 125,-40 to 85; 3-State Output: No; ComponentLink1Description: Manufacturer URL; ComponentLink1URL: http://www.ti.com/; ComponentLink2Description: Datasheet; ComponentLink2URL: http://www.ti.com/lit/ds/symlink/sn74lvc1gu04.pdf
footprint DRY0006A_V (SON, 6-Leads, Body 1.45x1mm, Pitch 0.5mm)
part A pins: 2 A (in), 4 Y (out)
part B pins: 1 NC, 3 GND (power), 5 NC, 6 VCC (power)

## SN74LVC1GU04DRYR
designator U?
Single Inverter Gate, DRY0006A, LARGE T&R; Generic Part Number: SN74LVC1GU04; Manufacturer: Texas Instruments; PartNumber: SN74LVC1GU04DRYR; VCC(Min)(V): 1.65; VCC(Max)(V): 5.5; Output Type: CMOS; ICC @ Nom Voltage(Max)(mA): 0.01; Input Type: CMOS/TTL; Bits(#): 1; F @ Nom Voltage(Max)(Mhz): 150; Rating: Catalog; Technology Family: LVC; Voltage(Nom)(V): 1.8,2.5,3.3,5; Schmitt Trigger: No; Output Drive (IOL/IOH)(Max)(mA): 32/-32; tpd @ Nom Voltage(Max)(ns): 5.5,4.5,4.2,3.5; Logic: Inverting; Sub-Family: Inverting Buffer/Driver; DatasheetVersion: SCES215V; PackageReference: DRY0006A; Supplier 1: Mouser; Supplier Part Number 1: 595-SN74LVC1GU04DRYR; Supplier 2: Digi-Key; Supplier Part Number 2: 296-29054-2-ND; Supplier 3: Digi-Key; Supplier Part Number 3: 296-29054-1-ND; Supplier 4: Digi-Key; Supplier Part Number 4: 296-29054-6-ND; Operating Temperature Range(C): -40 to 125,-40 to 85; 3-State Output: No; ComponentLink1Description: Manufacturer URL; ComponentLink1URL: http://www.ti.com/; ComponentLink2Description: Datasheet; ComponentLink2URL: http://www.ti.com/lit/ds/symlink/sn74lvc1gu04.pdf
footprint DRY0006A_V (SON, 6-Leads, Body 1.45x1mm, Pitch 0.5mm)
part A pins: 2 A (in), 4 Y (out)
part B pins: 1 NC, 3 GND (power), 5 NC, 6 VCC (power)

## SN74LVC1GU04DSFR
designator U?
Single Inverter Gate, DSF0006A, LARGE T&R; Generic Part Number: SN74LVC1GU04; Manufacturer: Texas Instruments; PartNumber: SN74LVC1GU04DSFR; VCC(Min)(V): 1.65; VCC(Max)(V): 5.5; Output Type: CMOS; ICC @ Nom Voltage(Max)(mA): 0.01; Input Type: CMOS/TTL; Bits(#): 1; F @ Nom Voltage(Max)(Mhz): 150; Rating: Catalog; Technology Family: LVC; Voltage(Nom)(V): 1.8,2.5,3.3,5; Schmitt Trigger: No; Output Drive (IOL/IOH)(Max)(mA): 32/-32; tpd @ Nom Voltage(Max)(ns): 5.5,4.5,4.2,3.5; Logic: Inverting; Sub-Family: Inverting Buffer/Driver; DatasheetVersion: SCES215V; PackageReference: DSF0006A; Supplier 1: Mouser; Supplier Part Number 1: 595-SN74LVC1GU04DSFR; Supplier 2: Digi-Key; Supplier Part Number 2: 296-29055-2-ND; Supplier 3: Digi-Key; Supplier Part Number 3: 296-29055-1-ND; Supplier 4: Digi-Key; Supplier Part Number 4: 296-29055-6-ND; Operating Temperature Range(C): -40 to 125,-40 to 85; 3-State Output: No; ComponentLink1Description: Manufacturer URL; ComponentLink1URL: http://www.ti.com/; ComponentLink2Description: Datasheet; ComponentLink2URL: http://www.ti.com/lit/ds/symlink/sn74lvc1gu04.pdf
footprint DSF0006A_V (SON, 6-Leads, Body 1x1mm, Pitch 0.35mm, TI Recommend)
part A pins: 2 A (in), 4 Y (out)
part B pins: 1 NC, 3 GND (power), 5 NC, 6 VCC (power)

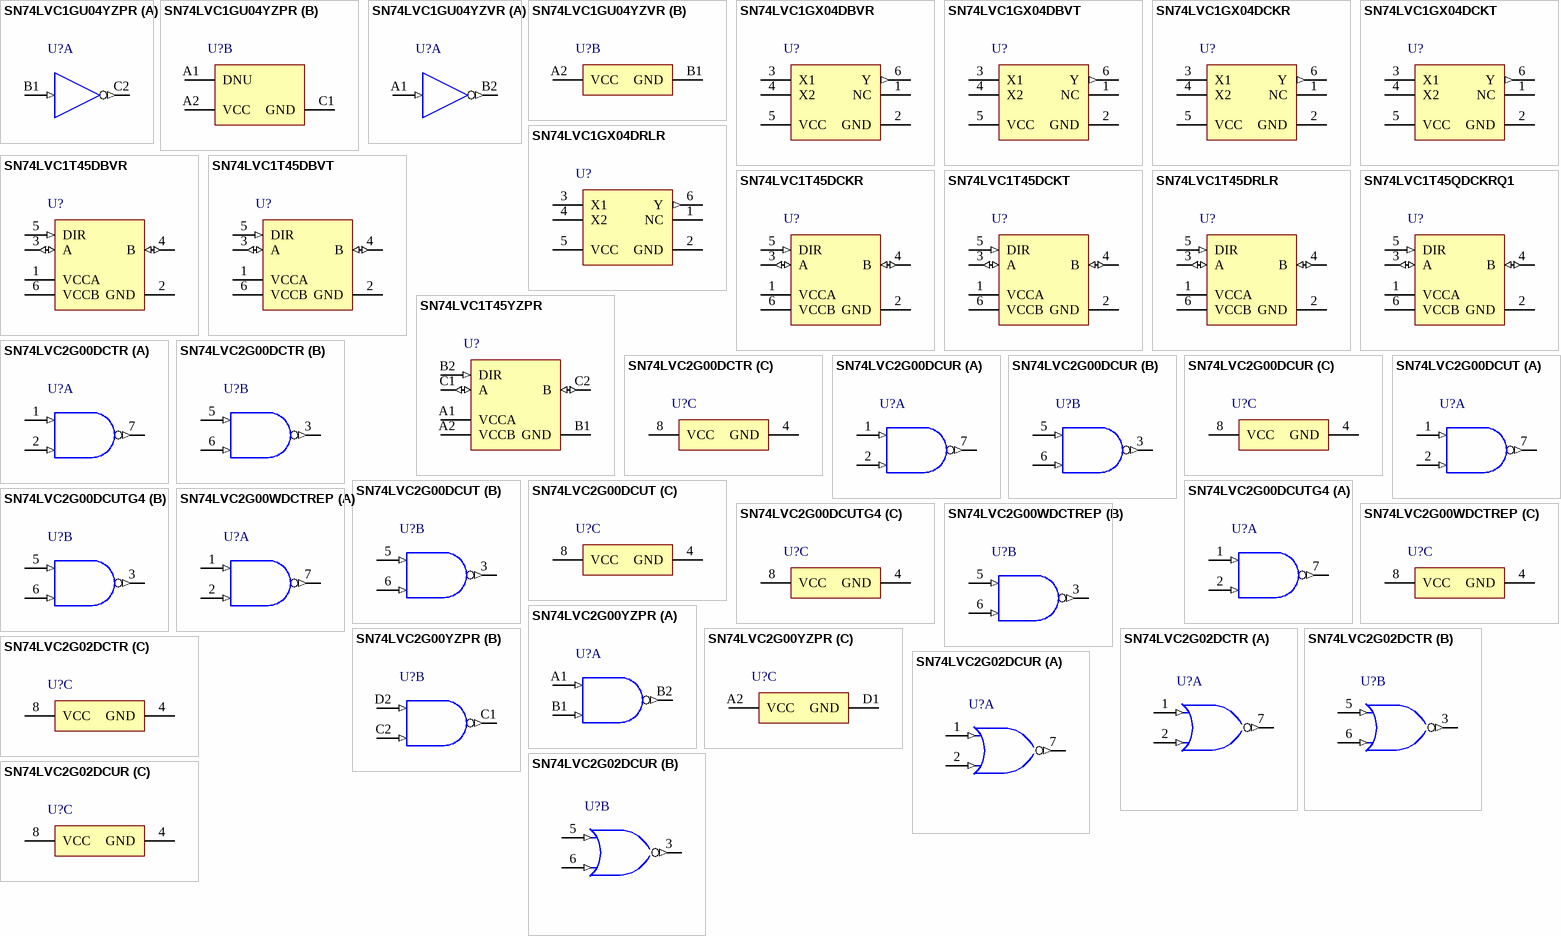
[diagram p47: symbols SN74LVC1GU04YZPR to SN74LVC2G02DCUR]

## SN74LVC1GU04YZPR
designator U?
Single Inverter Gate, YZP0005AEAE, LARGE T&R; Generic Part Number: SN74LVC1GU04; Manufacturer: Texas Instruments; PartNumber: SN74LVC1GU04YZPR; VCC(Min)(V): 1.65; VCC(Max)(V): 5.5; Output Type: CMOS; ICC @ Nom Voltage(Max)(mA): 0.01; Input Type: CMOS/TTL; Bits(#): 1; F @ Nom Voltage(Max)(Mhz): 150; Rating: Catalog; Technology Family: LVC; Voltage(Nom)(V): 1.8,2.5,3.3,5; Schmitt Trigger: No; Output Drive (IOL/IOH)(Max)(mA): 32/-32; tpd @ Nom Voltage(Max)(ns): 5.5,4.5,4.2,3.5; Logic: Inverting; Sub-Family: Inverting Buffer/Driver; DatasheetVersion: SCES215V; PackageReference: YZP0005AEAE; Supplier 1: Mouser; Supplier Part Number 1: 595-SN74LVC1GU04YZPR; Supplier 2: Digi-Key; Supplier Part Number 2: 296-14370-2-ND; Supplier 3: Digi-Key; Supplier Part Number 3: 296-14370-1-ND; Operating Temperature Range(C): -40 to 125,-40 to 85; 3-State Output: No; ComponentLink1Description: Manufacturer URL; ComponentLink1URL: http://www.ti.com/; ComponentLink2Description: Datasheet; ComponentLink2URL: http://www.ti.com/lit/ds/symlink/sn74lvc1gu04.pdf
footprint YZP0005AEAE (BGA, 5-Balls, Body 1.39x0.89mm, Pitch 0.5mm)
part A pins: B1 A (in) "Input", C2 Y (out) "Output"
part B pins: A1 DNU "Do not use", A2 VCC (power) "Power terminal", C1 GND (power) "Ground"

## SN74LVC1GU04YZVR
designator U?
Single Inverter Gate, YZV0004ADAD, LARGE T&R; Generic Part Number: SN74LVC1GU04; Manufacturer: Texas Instruments; PartNumber: SN74LVC1GU04YZVR; VCC(Min)(V): 1.65; VCC(Max)(V): 5.5; Output Type: CMOS; ICC @ Nom Voltage(Max)(mA): 0.01; Input Type: CMOS/TTL; Bits(#): 1; F @ Nom Voltage(Max)(Mhz): 150; Rating: Catalog; Technology Family: LVC; Voltage(Nom)(V): 1.8,2.5,3.3,5; Schmitt Trigger: No; Output Drive (IOL/IOH)(Max)(mA): 32/-32; tpd @ Nom Voltage(Max)(ns): 5.5,4.5,4.2,3.5; Logic: Inverting; Sub-Family: Inverting Buffer/Driver; DatasheetVersion: SCES215V; PackageReference: YZV0004ADAD; Supplier 1: Mouser; Supplier Part Number 1: 595-SN74LVC1GU04YZVR; Supplier 2: Digi-Key; Supplier Part Number 2: 296-21063-2-ND; Supplier 3: Digi-Key; Supplier Part Number 3: 296-21063-1-ND; Supplier 4: Digi-Key; Supplier Part Number 4: 296-21063-6-ND; Operating Temperature Range(C): -40 to 125,-40 to 85; 3-State Output: No; ComponentLink1Description: Manufacturer URL; ComponentLink1URL: http://www.ti.com/; ComponentLink2Description: Datasheet; ComponentLink2URL: http://www.ti.com/lit/ds/symlink/sn74lvc1gu04.pdf
footprint YZV0004ADAD (BGA, 4-Balls, Body 0.89x0.89mm, Pitch 0.5mm)
part A pins: A1 A (in) "Input", B2 Y (out) "Output"
part B pins: A2 VCC (power) "Power pin", B1 GND (power) "Ground"

## SN74LVC1GX04DBVR
designator U?
Crystal Oscillator Driver, DBV0006A, LARGE T&R; Generic Part Number: SN74LVC1GX04; Manufacturer: Texas Instruments; PartNumber: SN74LVC1GX04DBVR; VCC(Min)(V): 1.65; VCC(Max)(V): 5.5; Output Type: CMOS; ICC @ Nom Voltage(Max)(mA): 0.01; Input Type: CMOS/TTL; Bits(#): 1; F @ Nom Voltage(Max)(Mhz): 150; Rating: Catalog; Technology Family: LVC; Voltage(Nom)(V): 1.8,2.5,3.3,5; Schmitt Trigger: No; Output Drive (IOL/IOH)(Max)(mA): 32/-32; tpd @ Nom Voltage(Max)(ns): 7,4,3.7,7; Logic: True; Sub-Family: Inverting Buffer/Driver; DatasheetVersion: SCES581C; PackageReference: DBV0006A; Supplier 1: Mouser; Supplier Part Number 1: 595-SN74LVC1GX04DBVR; Supplier 2: Digi-Key; Supplier Part Number 2: 296-17821-2-ND; Supplier 3: Digi-Key; Supplier Part Number 3: 296-17821-1-ND; Supplier 4: Digi-Key; Supplier Part Number 4: 296-17821-6-ND; Operating Temperature Range(C): -40 to 125; 3-State Output: No; ComponentLink1Description: Manufacturer URL; ComponentLink1URL: http://www.ti.com/; ComponentLink2Description: Datasheet; ComponentLink2URL: http://www.ti.com/lit/ds/symlink/sn74lvc1gx04.pdf
footprint DBV0006A_N (SOT23, 6-Leads, Body 3.05x1.75mm, Pitch 0.95mm, IPC Medium Density)
footprint DBV0006A_M (SOT23, 6-Leads, Body 3.05x1.75mm, Pitch 0.95mm, IPC Low Density)
footprint DBV0006A_L (SOT23, 6-Leads, Body 3.05x1.75mm, Pitch 0.95mm, IPC High Density)
pins: 1 NC, 2 GND (power), 3 X1, 4 X2, 5 VCC (power), 6 Y (out)

## SN74LVC1GX04DBVT
designator U?
Crystal Oscillator Driver, DBV0006A, SMALL T&R; Generic Part Number: SN74LVC1GX04; Manufacturer: Texas Instruments; PartNumber: SN74LVC1GX04DBVT; VCC(Min)(V): 1.65; VCC(Max)(V): 5.5; Output Type: CMOS; ICC @ Nom Voltage(Max)(mA): 0.01; Input Type: CMOS/TTL; Bits(#): 1; F @ Nom Voltage(Max)(Mhz): 150; Rating: Catalog; Technology Family: LVC; Voltage(Nom)(V): 1.8,2.5,3.3,5; Schmitt Trigger: No; Output Drive (IOL/IOH)(Max)(mA): 32/-32; tpd @ Nom Voltage(Max)(ns): 7,4,3.7,7; Logic: True; Sub-Family: Inverting Buffer/Driver; DatasheetVersion: SCES581C; PackageReference: DBV0006A; Supplier 1: Mouser; Supplier Part Number 1: 595-SN74LVC1GX04DBVT; Supplier 2: Digi-Key; Supplier Part Number 2: 296-32315-2-ND; Supplier 3: Digi-Key; Supplier Part Number 3: 296-32315-1-ND; Supplier 4: Digi-Key; Supplier Part Number 4: 296-32315-6-ND; Operating Temperature Range(C): -40 to 125; 3-State Output: No; ComponentLink1Description: Manufacturer URL; ComponentLink1URL: http://www.ti.com/; ComponentLink2Description: Datasheet; ComponentLink2URL: http://www.ti.com/lit/ds/symlink/sn74lvc1gx04.pdf
footprint DBV0006A_N (SOT23, 6-Leads, Body 3.05x1.75mm, Pitch 0.95mm, IPC Medium Density)
footprint DBV0006A_M (SOT23, 6-Leads, Body 3.05x1.75mm, Pitch 0.95mm, IPC Low Density)
footprint DBV0006A_L (SOT23, 6-Leads, Body 3.05x1.75mm, Pitch 0.95mm, IPC High Density)
pins: 1 NC, 2 GND (power), 3 X1, 4 X2, 5 VCC (power), 6 Y (out)

## SN74LVC1GX04DCKR
designator U?
Crystal Oscillator Driver, DCK0006A, LARGE T&R; Generic Part Number: SN74LVC1GX04; Manufacturer: Texas Instruments; PartNumber: SN74LVC1GX04DCKR; VCC(Min)(V): 1.65; VCC(Max)(V): 5.5; Output Type: CMOS; ICC @ Nom Voltage(Max)(mA): 0.01; Input Type: CMOS/TTL; Bits(#): 1; F @ Nom Voltage(Max)(Mhz): 150; Rating: Catalog; Technology Family: LVC; Voltage(Nom)(V): 1.8,2.5,3.3,5; Schmitt Trigger: No; Output Drive (IOL/IOH)(Max)(mA): 32/-32; tpd @ Nom Voltage(Max)(ns): 7,4,3.7,7; Logic: True; Sub-Family: Inverting Buffer/Driver; DatasheetVersion: SCES581C; PackageReference: DCK0006A; Supplier 1: Mouser; Supplier Part Number 1: 595-SN74LVC1GX04DCKR; Supplier 2: Digi-Key; Supplier Part Number 2: 296-18796-2-ND; Supplier 3: Digi-Key; Supplier Part Number 3: 296-18796-1-ND; Supplier 4: Digi-Key; Supplier Part Number 4: 296-18796-6-ND; Operating Temperature Range(C): -40 to 125; 3-State Output: No; ComponentLink1Description: Manufacturer URL; ComponentLink1URL: http://www.ti.com/; ComponentLink2Description: Datasheet; ComponentLink2URL: http://www.ti.com/lit/ds/symlink/sn74lvc1gx04.pdf
footprint DCK0006A_N (SOT23, 6-Leads, Body 2.15x1.4mm, Pitch 0.65mm, IPC Medium Density)
footprint DCK0006A_M (SOT23, 6-Leads, Body 2.15x1.4mm, Pitch 0.65mm, IPC Low Density)
footprint DCK0006A_L (SOT23, 6-Leads, Body 2.15x1.4mm, Pitch 0.65mm, IPC High Density)
pins: 1 NC, 2 GND (power), 3 X1, 4 X2, 5 VCC (power), 6 Y (out)

## SN74LVC1GX04DCKT
designator U?
Crystal Oscillator Driver, DCK0006A, SMALL T&R; Generic Part Number: SN74LVC1GX04; Manufacturer: Texas Instruments; PartNumber: SN74LVC1GX04DCKT; VCC(Min)(V): 1.65; VCC(Max)(V): 5.5; Output Type: CMOS; ICC @ Nom Voltage(Max)(mA): 0.01; Input Type: CMOS/TTL; Bits(#): 1; F @ Nom Voltage(Max)(Mhz): 150; Rating: Catalog; Technology Family: LVC; Voltage(Nom)(V): 1.8,2.5,3.3,5; Schmitt Trigger: No; Output Drive (IOL/IOH)(Max)(mA): 32/-32; tpd @ Nom Voltage(Max)(ns): 7,4,3.7,7; Logic: True; Sub-Family: Inverting Buffer/Driver; DatasheetVersion: SCES581C; PackageReference: DCK0006A; Supplier 1: Mouser; Supplier Part Number 1: 595-SN74LVC1GX04DCKT; Supplier 2: Digi-Key; Supplier Part Number 2: 296-32316-2-ND; Supplier 3: Digi-Key; Supplier Part Number 3: 296-32316-1-ND; Supplier 4: Digi-Key; Supplier Part Number 4: 296-32316-6-ND; Operating Temperature Range(C): -40 to 125; 3-State Output: No; ComponentLink1Description: Manufacturer URL; ComponentLink1URL: http://www.ti.com/; ComponentLink2Description: Datasheet; ComponentLink2URL: http://www.ti.com/lit/ds/symlink/sn74lvc1gx04.pdf
footprint DCK0006A_N (SOT23, 6-Leads, Body 2.15x1.4mm, Pitch 0.65mm, IPC Medium Density)
footprint DCK0006A_M (SOT23, 6-Leads, Body 2.15x1.4mm, Pitch 0.65mm, IPC Low Density)
footprint DCK0006A_L (SOT23, 6-Leads, Body 2.15x1.4mm, Pitch 0.65mm, IPC High Density)
pins: 1 NC, 2 GND (power), 3 X1, 4 X2, 5 VCC (power), 6 Y (out)

## SN74LVC1GX04DRLR
designator U?
Crystal Oscillator Driver, DRL0006A, LARGE T&R; Generic Part Number: SN74LVC1GX04; Manufacturer: Texas Instruments; PartNumber: SN74LVC1GX04DRLR; VCC(Min)(V): 1.65; VCC(Max)(V): 5.5; Output Type: CMOS; ICC @ Nom Voltage(Max)(mA): 0.01; Input Type: CMOS/TTL; Bits(#): 1; F @ Nom Voltage(Max)(Mhz): 150; Rating: Catalog; Technology Family: LVC; Voltage(Nom)(V): 1.8,2.5,3.3,5; Schmitt Trigger: No; Output Drive (IOL/IOH)(Max)(mA): 32/-32; tpd @ Nom Voltage(Max)(ns): 7,4,3.7,7; Logic: True; Sub-Family: Inverting Buffer/Driver; DatasheetVersion: SCES581C; PackageReference: DRL0006A; Supplier 1: Mouser; Supplier Part Number 1: 595-SN74LVC1GX04DRLR; Supplier 2: Digi-Key; Supplier Part Number 2: 296-18614-2-ND; Supplier 3: Digi-Key; Supplier Part Number 3: 296-18614-1-ND; Supplier 4: Digi-Key; Supplier Part Number 4: 296-18614-6-ND; Operating Temperature Range(C): -40 to 125; 3-State Output: No; ComponentLink1Description: Manufacturer URL; ComponentLink1URL: http://www.ti.com/; ComponentLink2Description: Datasheet; ComponentLink2URL: http://www.ti.com/lit/ds/symlink/sn74lvc1gx04.pdf
footprint DRL0006A_N (SOT23, 6-Leads, Body 1.7x1.3mm, Pitch 0.5mm, IPC Medium Density)
footprint DRL0006A_M (SOT23, 6-Leads, Body 1.7x1.3mm, Pitch 0.5mm, IPC Low Density)
footprint DRL0006A_L (SOT23, 6-Leads, Body 1.7x1.3mm, Pitch 0.5mm, IPC High Density)
pins: 1 NC, 2 GND (power), 3 X1, 4 X2, 5 VCC (power), 6 Y (out)

## SN74LVC1T45DBVR
designator U?
Single-Bit Dual-Supply Bus Transceiver with Configurable Voltage Translation and 3-State Outputs, DBV0006A, LARGE T&R; Generic Part Number: SN74LVC1T45; Manufacturer: Texas Instruments; PartNumber: SN74LVC1T45DBVR; VCC(Min)(V): 1.65; VCC(Max)(V): 5.5; Output Type: CMOS; ICC @ Nom Voltage(Max)(mA): 0.004; Input Type: CMOS/TTL; Bits(#): 1; F @ Nom Voltage(Max)(Mhz): 150; Rating: Catalog; Technology Family: LVC; Voltage(Nom)(V): 1.8,2.5,3.3,5; Schmitt Trigger: No; Output Drive (IOL/IOH)(Max)(mA): 32/-32; tpd @ Nom Voltage(Max)(ns): 15.5,8,5.8,4.4; Logic: True; Sub-Family: Dual Supply Translator; 3-State Output: Yes; DatasheetVersion: SCES515K; PackageReference: DBV0006A; Supplier 1: Mouser; Supplier Part Number 1: 595-SN74LVC1T45DBVR; Supplier 2: Digi-Key; Supplier Part Number 2: 296-16843-2-ND; Supplier 3: Digi-Key; Supplier Part Number 3: 296-16843-1-ND; Supplier 4: Digi-Key; Supplier Part Number 4: 296-16843-6-ND; Operating Temperature Range(C): -40 to 85; ComponentLink1Description: Manufacturer URL; ComponentLink1URL: http://www.ti.com/; ComponentLink2Description: Datasheet; ComponentLink2URL: http://www.ti.com/lit/ds/symlink/sn74lvc1t45.pdf
footprint DBV0006A_N (SOT23, 6-Leads, Body 3.05x1.75mm, Pitch 0.95mm, IPC Medium Density)
footprint DBV0006A_M (SOT23, 6-Leads, Body 3.05x1.75mm, Pitch 0.95mm, IPC Low Density)
footprint DBV0006A_L (SOT23, 6-Leads, Body 3.05x1.75mm, Pitch 0.95mm, IPC High Density)
pins: 1 VCCA (power), 2 GND (power), 3 A (io), 4 B (io), 5 DIR (in), 6 VCCB (power)